# EAGLE library part KXPS5 (library jasons_stuff)
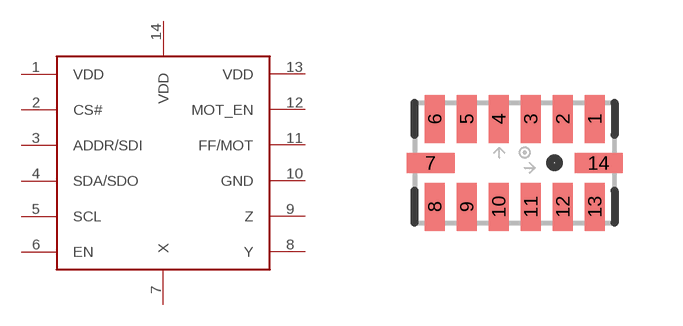
[diagram p20: symbol with the pads of LGA14; footprint LGA14]

Designator prefix -

## KXPS5  [LGA14]
1  VDD
2  CS#
3  ADDR/SDI
4  SDA/SDO
5  SCL
6  EN
7  X
8  Y
9  Z
10  GND
11  FF/MOT
12  MOT_EN
13  VDD
14  VDD

## Footprint LGA14 (pad centres in mm)
smd 0.5 x 1.2: 1 2,1.1; 2 1.2,1.1; 3 0.4,1.1; 4 -0.4,1.1; 5 -1.2,1.1; 6 -2,1.1; 8 -2,-1.1; 9 -1.2,-1.1; 10 -0.4,-1.1; 11 0.4,-1.1; 12 1.2,-1.1; 13 2,-1.1
smd 1.2 x 0.5: 7 -2.1,0; 14 2.1,0